# Altium footprint library DrumPad.PcbLib: 21 footprints (part 2 of 2)
Each footprint in its own frame and in the unit in brackets; x right, y up, seen from the top. Pads: shape width x height; smd on the part's side, far side on the other; paste and mask are expansions set on the pad; w line width, h text height; cw(c..) or ccw(c..) is an arc to the next point about the centre after c.
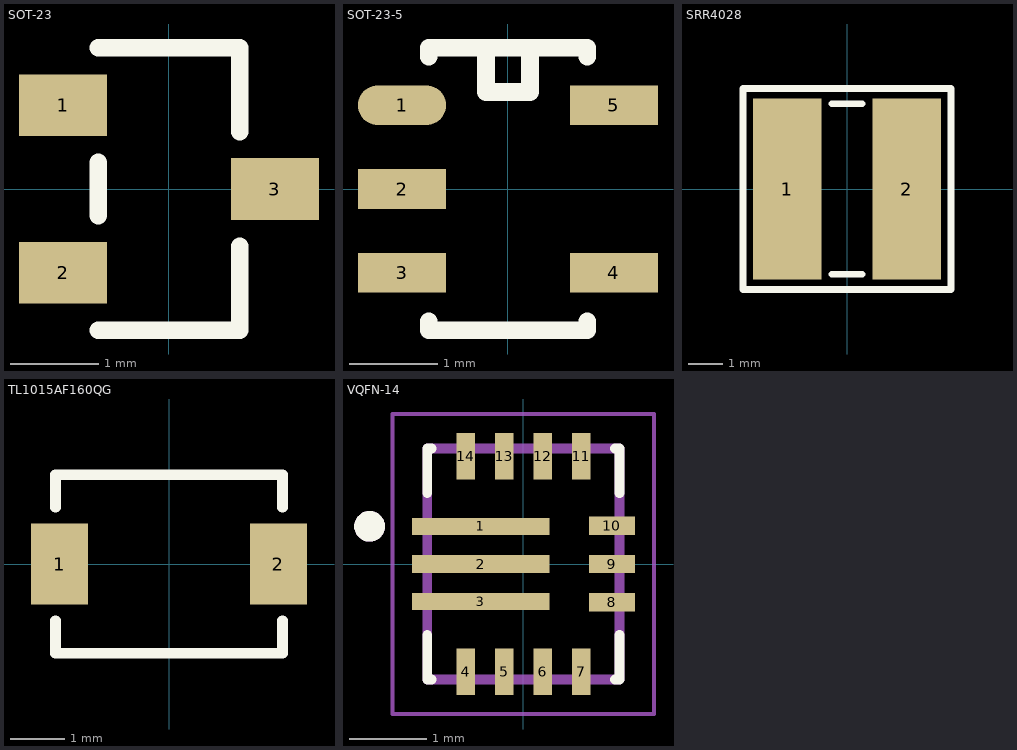
[diagram p1: the footprints below, top view; thin cyan lines are the x and y axes]

## SOT-23 [mm]
pads (3):
  rect 1x0.7 smd paste-0.05: 1(-1.2,0.95) 2(-1.2,-0.95) 3(1.2,0)
Top Overlay:
  lines w0.2: -0.8,-1.6 0.8,-1.6 0.8,-0.65 ; -0.8,-0.3 -0.8,0.3 ; -0.8,1.6 0.8,1.6 0.8,0.65
3D body "SOT-23.stp": height 1, standoff 0, extent -1.25,-1.5 1.25,1.5

## SOT-23-5 [mm]
pads (5):
  oval 1x0.45 smd: 1(-1.2,0.95)
  rect 1x0.45 smd: 2(-1.2,0) 3(-1.2,-0.95) 4(1.2,-0.95) 5(1.2,0.95)
Top Overlay:
  lines w0.2: -0.9,-1.5 -0.9,-1.6 0.9,-1.6 0.9,-1.5 ; -0.9,1.5 -0.9,1.6 0.9,1.6 0.9,1.5 ; -0.25,1.6 -0.25,1.1 0.25,1.1 0.25,1.6
3D body "SOT-23-5.stp": height 1.35, standoff 0, extent -1.4,-1.5 1.4,1.5

## SRR4028 [mm]
pads (2):
  rect 2x5.3 smd paste-1.5: 1(-1.75,0) 2(1.75,0)
Top Overlay:
  lines w0.2: -0.45,-2.5 0.45,-2.5 ; -0.45,2.5 0.45,2.5 ; -3.05,-2.95 3.05,-2.95 3.05,2.95 -3.05,2.95 -3.05,-2.95
Top Paste:
  region: 2.6,0.15 2.6,1.175 0.9,1.175 0.9,0.15
  region: 0.9,-0.15 0.9,-1.175 2.6,-1.175 2.6,-0.15
  region: 0.9,2.5 0.9,1.475 2.6,1.475 2.6,2.5
  region: 2.6,-2.5 2.6,-1.475 0.9,-1.475 0.9,-2.5
  region: -2.6,2.5 -2.6,1.475 -0.9,1.475 -0.9,2.5
  region: -0.9,-2.5 -0.9,-1.475 -2.6,-1.475 -2.6,-2.5
  region: -0.9,0.15 -0.9,1.175 -2.6,1.175 -2.6,0.15
  region: -2.6,-0.15 -2.6,-1.175 -0.9,-1.175 -0.9,-0.15
3D body "SRR4028.stp": height 2.8, standoff 0, extent -2.4,-2.4 2.4,2.4

## TL1015AF160QG [mm]
pads (2):
  rect 1.05x1.5 smd: 1(-2.025,0) 2(2.025,0)
Top Overlay:
  lines w0.2: -2.1,-1.05 -2.1,-1.65 2.1,-1.65 2.1,-1.05 ; -2.1,1.05 -2.1,1.65 2.1,1.65 2.1,1.05
3D body "TL1015AF160QG.stp": height 2, standoff 0, extent -2.227,-1.55 2.227,1.55

## VQFN-14 [mm]
pads (14):
  rect 1.79x0.22 smd paste-2 mask+0: 1(-0.555,0.49) 3(-0.555,-0.49)
  rect 1.79x0.24 smd paste-2 mask+0: 2(-0.555,0)
  rect 0.24x0.6 smd mask+0: 4(-0.75,-1.4) 5(-0.25,-1.4) 6(0.25,-1.4) 7(0.75,-1.4) 11(0.75,1.4) 12(0.25,1.4) 13(-0.25,1.4) 14(-0.75,1.4)
  rect 0.6x0.24 smd mask+0: 8(1.15,-0.5) 9(1.15,0) 10(1.15,0.5)
Top Overlay:
  circle w0.2: c-2,0.49 r0.1
  lines w0.127: -1.25,-0.92 -1.25,-1.5 -1.19,-1.5 ; -1.25,0.92 -1.25,1.5 -1.19,1.5 ; 1.19,-1.5 1.25,-1.5 1.25,-0.92 ; 1.19,1.5 1.25,1.5 1.25,0.92
Top Paste:
  region: -0.653,0.38 -1.448,0.38 -1.448,0.6 -0.653,0.6
  region: -0.653,-0.12 -1.448,-0.12 -1.448,0.12 -0.653,0.12
  region: -0.653,-0.6 -1.448,-0.6 -1.448,-0.38 -0.653,-0.38
  region: 0.337,0.38 -0.457,0.38 -0.457,0.6 0.337,0.6
  region: 0.337,-0.12 -0.457,-0.12 -0.457,0.12 0.337,0.12
  region: 0.337,-0.6 -0.457,-0.6 -0.457,-0.38 0.337,-0.38
Top Solder:
  region: 1.5,-0.17 0.8,-0.17 0.8,0.17 1.5,0.17
  region: 0.6,1.23 -0.1,1.23 -0.1,1.57 0.6,1.57
  region: 0.6,-1.57 -0.1,-1.57 -0.1,-1.23 0.6,-1.23
  region: -0.4,-1.57 -1.1,-1.57 -1.1,-1.23 -0.4,-1.23
  region: 0.1,-1.57 -0.6,-1.57 -0.6,-1.23 0.1,-1.23
  region: 1.1,-1.57 0.4,-1.57 0.4,-1.23 1.1,-1.23
  region: -0.4,1.23 -1.1,1.23 -1.1,1.57 -0.4,1.57
  region: 0.1,1.23 -0.6,1.23 -0.6,1.57 0.1,1.57
  region: 1.1,1.23 0.4,1.23 0.4,1.57 1.1,1.57
  region: 1.5,0.33 0.8,0.33 0.8,0.67 1.5,0.67
  region: 1.5,-0.67 0.8,-0.67 0.8,-0.33 1.5,-0.33
  region: 0.39,0.33 -1.5,0.33 -1.5,0.65 0.39,0.65
  region: 0.39,-0.17 -1.5,-0.17 -1.5,0.17 0.39,0.17
  region: 0.39,-0.65 -1.5,-0.65 -1.5,-0.33 0.39,-0.33
Mechanical 13:
  circle w0.2: c-2,0.49 r0.1
  lines w0.127: -1.25,-1.5 1.25,-1.5 1.25,1.5 -1.25,1.5 -1.25,-1.5
Mechanical 15:
  lines w0.05: -1.7,-1.95 -1.7,1.95 1.7,1.95 1.7,-1.95 -1.7,-1.95
3D body "TPS630250RNCR--3DModel-STEP-56544.STEP": height 0.95, standoff -0.05, extent -1.25,-1.5 1.25,1.5